# Altium footprint library Connector_USB.PcbLib: 26 footprints (part 1 of 2)
Each footprint in its own frame and in the unit in brackets; x right, y up, seen from the top. Pads: shape width x height; smd on the part's side, far side on the other; paste and mask are expansions set on the pad; w line width, h text height; cw(c..) or ccw(c..) is an arc to the next point about the centre after c.
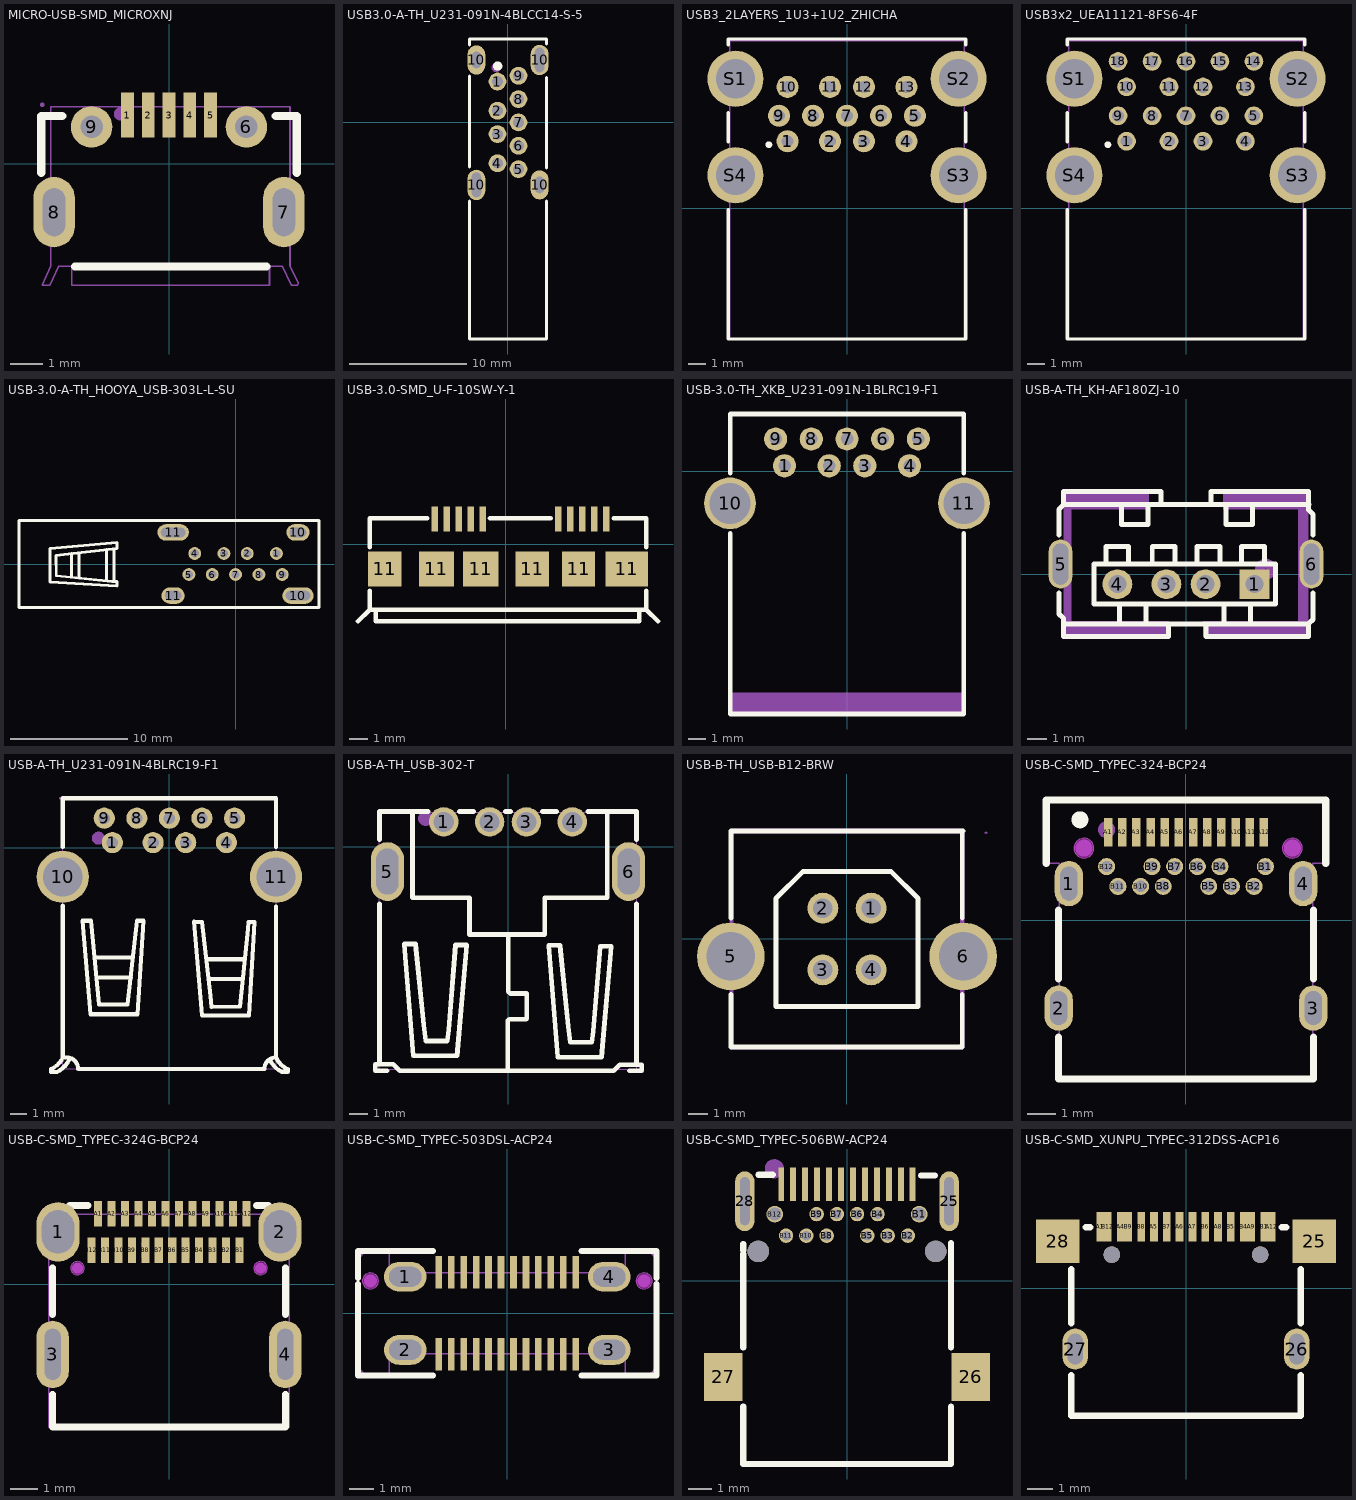
[diagram p0: the footprints below, top view; thin cyan lines are the x and y axes]

## MICRO-USB-SMD_MICROXNJ [mil]
pads (9):
  rect 15.7x55.1 smd mask+2: 1(-51.2,59.9) 2(-25.6,59.9) 3(0,59.9) 4(25.6,59.9) 5(51.2,59.9)
  round 51.2 hole 27.6 mask+2: 6(95.5,45.2) 9(-95.5,45.2)
  oval 51.2x86.6 hole 27.6 slot 59.1 at 90 deg mask+2: 7(141.7,-59.9) 8(-141.7,-59.9)
Top Overlay:
  lines w10: -157.5,-11.3 -157.5,58.7 -131.7,58.7 ; -116.14,-126.97 120.08,-126.97 ; 131.7,58.7 157.5,58.7 157.5,-11.3
Top Paste:
  circle w25.6: c95.5,45.2 r12.8
  circle w25.6: c-95.5,45.2 r12.8
  region: -43.3,87.5 -59.1,87.5 -59.1,40.2 -59.1,32.3 -43.3,32.3 -43.3,41.7
  region: -17.7,87.5 -33.5,87.5 -33.5,40.2 -33.5,32.3 -17.7,32.3 -17.7,41.7
  region: 7.9,87.5 -7.9,87.5 -7.9,40.2 -7.9,32.3 7.9,32.3 7.9,41.7
  region: 33.5,87.5 17.7,87.5 17.7,40.2 17.7,32.3 33.5,32.3 33.5,41.7
  region: 59.1,87.5 43.3,87.5 43.3,40.2 43.3,32.3 59.1,32.3 59.1,41.7
  region: -167.3,-42.2 -167.3,-38.83 -165.56,-32.32 -162.19,-26.48 -157.42,-21.71 -151.58,-18.34 -145.07,-16.6 -138.33,-16.6 -131.82,-18.34 -125.98,-21.71 -121.22,-26.48 -117.84,-32.32 -116.1,-38.83 -116.1,-42.2 -116.1,-77.6 -116.1,-80.97 -117.84,-87.48 -121.22,-93.32 -125.98,-98.09 -131.82,-101.46 -138.33,-103.2 -145.07,-103.2 -151.58,-101.46 -157.42,-98.09 -162.19,-93.32 -165.56,-87.48 -167.3,-80.97 -167.3,-77.6
  region: 116.1,-42.2 116.1,-38.83 117.84,-32.32 121.21,-26.48 125.98,-21.71 131.82,-18.34 138.33,-16.6 145.07,-16.6 151.58,-18.34 157.42,-21.71 162.19,-26.48 165.56,-32.32 167.3,-38.83 167.3,-42.2 167.3,-77.6 167.3,-80.97 165.56,-87.48 162.19,-93.32 157.42,-98.09 151.58,-101.46 145.07,-103.2 138.33,-103.2 131.82,-101.46 125.98,-98.09 121.21,-93.32 117.84,-87.48 116.1,-80.97 116.1,-77.6
Mechanical 6:
  circle w7.9: c-60.2,61.2 r3.9
Mechanical 15:
  region: 46.3,33.1 46.3,72.5 56.1,72.5 56.1,33.1
  region: 20.7,33.1 20.7,72.5 30.5,72.5 30.5,33.1
  region: -4.9,33.1 -4.9,72.5 4.9,72.5 4.9,33.1
  region: -30.5,33.1 -30.5,72.5 -20.7,72.5 -20.7,33.1
  region: -56.1,33.1 -56.1,72.5 -46.3,72.5 -46.3,33.1
  region: 85.6,41.3 85.6,49.2 105.3,49.2 105.3,41.3
  region: -105.3,41.3 -105.3,49.2 -85.6,49.2 -85.6,41.3
  region: 135.8,-42 147.6,-42 147.6,-77.8 135.8,-77.8
  region: -147.6,-42 -135.8,-42 -135.8,-77.8 -147.6,-77.8
  region: -153.9,72.5 -153.9,73.49 -155.31,74.9 -157.29,74.9 -158.7,73.49 -158.7,72.5 -158.7,71.51 -157.29,70.1 -155.31,70.1 -153.9,71.51 -153.9,72.5
  lines w2: -156.3,-149.9 -145.7,-126.2 -145.7,69.8 -145.7,70.2 149.2,70.2 149.2,-125.8 159.4,-147.5 158.7,-149.9 150.8,-149.9 139.4,-126.6 124,-126.6 124,-150.2 -119.3,-149.9 -120.1,-149.9 -120.1,-126.6 -135.8,-126.6 -147.2,-150.2 -156.3,-149.9
3D body "3D_PCB1_2022-04-16.step": height 108.29, standoff -39.39, extent -155.73,-169.82 159.33,50.65

## USB3.0-A-TH_U231-091N-4BLCC14-S-5 [mil]
pads (13):
  round 60 hole 36: 1(-35.43,137.79) 2(-35.43,39.37) 3(-35.43,-39.37) 4(-35.43,-137.79) 5(35.44,-157.48) 6(35.44,-78.74) 7(35.44,0) 8(35.44,78.74) 9(35.44,157.48)
  oval 60x102.36 hole 31.5 slot 82.68 at 90 deg: 10(-106.69,-210.63) 10(106.7,210.63)
  oval 60x98.42 hole 31.5 slot 55.12 at 90 deg: 10(-106.69,210.63) 10(106.7,-210.63)
Top Overlay:
  circle w15.75: c-34.99,190 r7.87
  lines w10: -130,-150 -130,156.04 ; -129.91,-265.54 -129.91,-729.96 129.87,-729.96 130.21,-730.31 130.21,-265.51 129.93,-265.23 ; -129.91,261.77 -129.91,281.22 -129.81,281.33 129.93,281.33 129.93,264.79 ; 129.93,-154.4 129.93,151.65
Mechanical 15:
  circle w15.75: c-39.99,185 r7.87
3D body "USB1.stp": height 545.28, standoff -137.8, extent -128.35,-733.35 128.35,284.37

## USB3_2LAYERS_1U3+1U2_ZHICHA [mm]
pads (17):
  round 1.3 hole 0.7: 1(-3.5,3.93) 2(-1,3.93) 3(1,3.93) 4(3.5,3.93) 5(4,5.43) 6(2,5.43) 7(0,5.43) 8(-2,5.43) 9(-4,5.43) 10(-3.5,7.13) 11(-1,7.13) 12(1,7.13) 13(3.5,7.13)
  round 3.3 hole 2.3: S1(-6.57,7.61) S2(6.57,7.61) S3(6.57,1.93) S4(-6.57,1.93)
Top Overlay:
  circle w0.2: c-4.6,3.73 r0.1
  lines w0.2: -7,-0.1 -7,-7.71 7,-7.71 7,-0.1 ; -7,3.9 -7,5.6 ; -7,9.6 -7,9.95 7,9.95 7,9.6 ; 7,3.9 7,5.6
Mechanical 13:
  lines w0.1: -6.9,-7.71 -6.9,9.85 6.9,9.85 6.9,-7.71 -6.9,-7.71
3D body "8129645.stp": height 16.2, standoff -3.2, extent -7.81,-7.529 7.86,9.931

## USB3x2_UEA11121-8FS6-4F [mm]
pads (22):
  round 1.1 hole 0.7: 1(-3.5,3.93) 2(-1,3.93) 3(1,3.93) 4(3.5,3.93) 5(4,5.43) 6(2,5.43) 7(0,5.43) 8(-2,5.43) 9(-4,5.43) 10(-3.5,7.13) 11(-1,7.13) 12(1,7.13) 13(3.5,7.13) 14(4,8.63) 15(2,8.63) 16(0,8.63) 17(-2,8.63) 18(-4,8.63)
  round 3.3 hole 2.3: S1(-6.57,7.61) S2(6.57,7.61) S3(6.57,1.93) S4(-6.57,1.93)
Top Overlay:
  circle w0.2: c-4.6,3.73 r0.1
  lines w0.2: -7,-0.1 -7,-7.71 7,-7.71 7,-0.1 ; -7,3.9 -7,5.6 ; -7,9.6 -7,9.95 7,9.95 7,9.6 ; 7,3.9 7,5.6
Mechanical 13:
  lines w0.1: -6.9,-7.71 -6.9,9.85 6.9,9.85 6.9,-7.71 -6.9,-7.71
3D body "8129645.stp": height 16.2, standoff -3.2, extent -7.81,-7.529 7.86,9.931

## USB-3.0-A-TH_HOOYA_USB-303L-L-SU [mm]
pads (13):
  round 1.1 hole 0.7: 1(3.5,0.9) 2(1,0.9) 3(-1,0.9) 4(-3.5,0.9) 5(-4,-0.9) 6(-2,-0.9) 7(0,-0.9) 8(2,-0.9) 9(4,-0.9)
  oval 2x1.4 hole 0.8 slot 1.4 at 0 deg: 10(5.35,2.71) 11(-5.35,-2.71)
  oval 2.7x1.4 hole 0.8 slot 2.1 at 0 deg: 10(5.35,-2.71) 11(-5.35,2.71)
Top Overlay:
  lines w0.254: -18.558,3.725 7.15,3.725 7.15,-3.725 -18.55,-3.725 -18.55,3.726 ; -14.042,-1.134 -14.042,0.891 ; -13.413,-1.203 -13.413,0.961 ; -11.047,-1.429 -11.047,1.227 ; -10.435,-1.482 -10.435,1.296 ; -15.901,-1.542 -15.89,1.341 -10.155,1.836 -10.159,1.327 -14.699,0.817 -15.377,0.742 -15.367,-1.008 -10.588,-1.482 -10.158,-1.512 -10.158,-1.892 -15.901,-1.542

## USB-3.0-SMD_U-F-10SW-Y-1 [mm]
pads (16):
  rect 0.35x1.35 smd paste+0 mask+0.05: 1(-3.85,1.35) 2(-3.2,1.35) 3(-2.55,1.35) 4(-1.9,1.35) 5(-1.25,1.35) 6(2.85,1.35) 7(3.5,1.35) 8(4.15,1.35) 9(4.8,1.35) 10(5.45,1.35)
  rect 1.8x1.9 smd paste+0 mask+0.05: 11(-6.55,-1.35) 11(3.95,-1.35)
  rect 1.9x1.9 smd paste+0 mask+0.05: 11(-3.75,-1.35) 11(-1.35,-1.35)
  rect 1.81x1.9 smd paste+0 mask+0.05: 11(1.445,-1.35)
  rect 2.3x1.9 smd paste+0 mask+0.05: 11(6.55,-1.35)
Top Overlay:
  lines w0.254: -8.001,-4.191 -7.366,-3.556 ; -7.366,-2.531 -7.366,-3.556 ; -7.366,-0.169 -7.366,1.397 -4.256,1.397 ; -7.042,-3.556 -7.042,-4.191 7.239,-4.191 7.239,-3.556 ; -0.844,1.397 2.444,1.397 ; 5.856,1.397 7.62,1.397 7.62,-0.169 ; 7.62,-2.531 7.62,-3.556 ; 8.255,-4.191 7.62,-3.556 ; -7.366,-3.556 7.62,-3.556
3D body "USB1.stp": height 2.7, standoff -0.3, extent -6.55,-3.998 7.05,1.232

## USB-3.0-TH_XKB_U231-091N-1BLRC19-F1 [mm]
pads (11):
  round 1.3 hole 0.7: 1(-3.5,0.3) 2(-1,0.3) 3(1,0.3) 4(3.5,0.3) 5(4,1.8) 6(2,1.8) 7(0,1.8) 8(-2,1.8) 9(-4,1.8)
  round 2.9 hole 2.3: 10(-6.55,-1.8) 11(6.55,-1.8)
Top Overlay:
  lines w0.254: -6.55,-3.481 -6.55,-13.6 6.55,-13.6 6.55,-3.481 ; -6.55,-0.119 -6.55,3.2 6.55,3.2 6.55,-0.119
Mechanical 15:
  region: -6.6,-12.4 6.6,-12.4 6.6,-13.6 -6.6,-13.6

## USB-A-TH_KH-AF180ZJ-10 [mil]
pads (6):
  rect 60x60 hole 36: 1(137.79,-20.27)
  round 60 hole 36: 2(39.37,-20.27) 3(-39.37,-20.27) 4(-137.79,-20.27)
  oval 47.24x98.42 hole 31.5 slot 82.68 at 90 deg: 5(-252.01,20.23) 6(252.01,20.23)
Top Overlay:
  lines w10: -255,-37.9 -255,-80 -246.11,-88.89 -246.11,-100 ; -255,78.45 -255,120 -255,130 -245,140 ; -160.79,20.28 -160.79,55.28 -115,55.28 -115,20.28 ; -133.69,-59.72 -133.69,-99.72 -80,-99.72 -80,-59.72 ; -130,140 -130,100 -76.31,100 -76.31,140 ; -67.79,20.28 -67.79,55.28 -22,55.28 -22,20.28 ; 22.21,20.28 22.21,55.28 68,55.28 68,20.28 ; 40,-110 40,-125.78 246.06,-125.78 246.06,-99.95 ; 39.99,-109.95 39.99,-99.95 ; 49.99,165.04 49.99,140.04 -50.01,140.04 -50.01,166.34 -246.11,166.34 -246.11,141.11 -245,140 ; 50,166.34 246.06,166.34 246.06,140 246.06,128.94 255,120 255,78.45 ; 76.31,-59.72 76.31,-99.72 130,-99.72 130,-59.72 ; 80,140 80,100 133.69,100 133.69,140 ; 111.71,20.28 111.71,55.28 157.5,55.28 157.5,20.28 ; 247.13,140 -245,140 ; 255,-37.9 255,-85 255,-91.02 246.06,-99.95 ; -246.11,-100 -246.06,-99.95 -35.01,-99.95 ; -246.11,-100 -246.11,-124.95 -35.01,-124.95 -35.01,-99.95 ; -35.01,-99.95 39.99,-99.95 ; 39.99,-99.95 246.06,-99.95 ; -185,-59.72 -185,20.28 180,20.28 180,-59.72 -185,-59.72
Mechanical 15:
  circle w19.68: c160,9.85 r11.18
  region: -245,130 -245,-95 -230,-95 -230,130
  region: 245,-95 245,130 225,130 225,-95
  region: 35,-125 35,-95 245,-95 245,-125
  region: -245,-125 -245,-95 -35,-95 -35,-125
  region: 75,130 75,165 245,165 245,130
  region: -75,130 -75,165 -245,165 -245,130
3D body "USB1.stp": height 393.82, standoff -118.13, extent -257.88,-126.38 257.88,165.75

## USB-A-TH_U231-091N-4BLRC19-F1 [mil]
pads (11):
  round 51.2 hole 27.6 mask+2: 1(-137.8,11.8) 2(-39.4,11.8) 3(39.4,11.8) 4(137.8,11.8) 5(157.5,70.9) 6(78.7,70.9) 7(0,70.9) 8(-78.7,70.9) 9(-157.5,70.9)
  round 126 hole 94.5 mask+2: 10(-257.9,-70.9) 11(257.9,-70.9)
Top Overlay:
  lines w10: -271.7,-542.8 -286,-542.8 -286,-535.9 ccw(c-308.43,-485.33) -257.87,-507.77 ; -271.65,-542.82 ccw(c-299.19,-486.69) -242.86,-513.81 ; -257.9,-507.8 -257.9,-140.7 ; -257.9,-507.5 -248.7,-507.5 cw(c-248.69,-535.6) -220.58,-535.6 229.7,-535.6 cw(c257.8,-535.6) 257.8,-507.49 257.8,-143 ; -257.9,1.2 -257.9,119.1 257.9,119.1 257.9,1.2 ; -257.87,-79.69 cw(c-251.97,-79.69) -251.97,-73.79 ; -179.1,-266.3 -90.1,-266.3 ; -173.6,-314 -93.6,-314 ; 91.8,-270.2 180.8,-270.2 ; 97.4,-317.9 177.3,-317.9 ; 242.86,-513.29 ccw(c299.19,-486.16) 271.65,-542.29 ; 257.87,-507.25 ccw(c304.11,-489.12) 285.98,-535.36 ; 271.7,-542.3 286,-542.3 286,-535.4 ; -210,-177.2 -190,-177.2 -170.1,-379.3 -101.2,-379.3 -78,-177.2 -63,-177.2 -77,-403.2 -191,-403.2 -210,-177.2 ; 59.1,-179.7 79.1,-179.9 99.2,-358.6 102.2,-385.3 171.1,-384.9 189.7,-196.8 190.9,-179.9 205.9,-179.9 192.1,-406 78.6,-405.5 59.1,-179.7
Mechanical 6:
  circle w15.7: c-171.6,22.5 r7.9
Mechanical 15:
  region: 252,-37.4 263.8,-37.4 263.8,-104.3 252,-104.3
  region: -263.8,-37.4 -252,-37.4 -252,-104.3 -263.8,-104.3
  region: -145.7,7.9 -145.7,15.8 -129.9,15.8 -129.9,7.9
  region: -47.2,7.9 -47.2,15.8 -31.5,15.8 -31.5,7.9
  region: 31.5,7.9 31.5,15.8 47.2,15.8 47.2,7.9
  region: 129.9,7.9 129.9,15.8 145.7,15.8 145.7,7.9
  region: 149.6,66.9 149.6,74.8 165.4,74.8 165.4,66.9
  region: 70.9,66.9 70.9,74.8 86.6,74.8 86.6,66.9
  region: -7.9,66.9 -7.9,74.8 7.9,74.8 7.9,66.9
  region: -86.6,66.9 -86.6,74.8 -70.9,74.8 -70.9,66.9
  region: -165.3,66.9 -165.3,74.8 -149.6,74.8 -149.6,66.9
  region: -261.4,118.8 -261.4,119.79 -262.81,121.2 -264.79,121.2 -266.2,119.79 -266.2,118.8 -266.2,117.81 -264.79,116.4 -262.81,116.4 -261.4,117.81 -261.4,118.8
  lines w2: -257.9,-534.8 257.9,-534.8 257.9,118.8 -257.9,118.8 -257.9,-534.8
3D body "3D_PCB1_2022-04-16.stp": height 282.55, standoff -118.11, extent -311.16,-533.91 311.16,127.51

## USB-A-TH_USB-302-T [mil]
pads (6):
  round 63 hole 43.3 mask+2: 1(-137.8,53.3) 2(-39.4,53.3) 3(39.4,53.3) 4(137.8,53.3)
  oval 70.9x126 hole 47.2 slot 98.4 at 90 deg mask+2: 5(-258.7,-53.3) 6(258.7,-53.3)
Top Overlay:
  lines w10: -284.5,-480.7 -259.5,-480.7 ; -284.4,-480.7 -284.5,-466.7 -246.5,-466.7 -232.5,-480.7 226.5,-480.7 239.5,-467.7 286.5,-467.7 286.5,-480.7 260.5,-480.7 ; -275.6,-459.8 -275.6,-122.1 ; -275.6,15.4 -275.6,75.6 -171.7,75.6 ; -204.7,75.6 -204.7,-109.4 -82.7,-109.4 -82.7,-188.2 78.7,-188.2 78.7,-109.4 212.6,-109.4 212.6,75.6 ; -103.9,75.6 -73.3,75.6 ; -5.4,75.6 5.4,75.6 ; -0.5,-480.7 -0.5,-372.7 2.5,-369.7 39.5,-369.7 40.5,-368.7 40.5,-314.7 4.5,-314.7 0.5,-310.7 0.5,-205.7 ; 0.5,-212.9 0.5,-188.2 ; 73.3,75.6 103.9,75.6 ; 171.7,75.6 275.6,75.6 275.6,15.4 ; 275.6,-467.7 275.6,-122.1 ; -222.5,-208.7 -203.5,-448.7 -109.5,-448.7 -88.5,-210.7 -112.5,-210.7 -127.2,-393.3 -130.1,-416.7 -176.5,-416.7 -180.5,-382.7 -198.5,-208.7 -222.5,-208.7 ; 87.5,-211.7 106.5,-451.7 200.5,-451.7 221.5,-213.7 197.5,-213.7 182.8,-396.3 179.9,-419.7 133.5,-419.7 129.5,-385.7 111.5,-211.7 87.5,-211.7
Mechanical 6:
  circle w15.7: c-177,60.5 r7.9
Mechanical 15:
  region: -274.7,74 -274.7,74.99 -276.11,76.4 -278.09,76.4 -279.5,74.99 -279.5,74 -279.5,73.01 -278.09,71.6 -276.11,71.6 -274.7,73.01 -274.7,74
  region: -151.6,49.4 -151.6,57.3 -124,57.3 -124,49.4
  region: -53.1,49.4 -53.1,57.3 -25.6,57.3 -25.6,49.4
  region: 25.6,49.4 25.6,57.3 53.2,57.3 53.2,49.4
  region: 124,49.4 124,57.3 151.6,57.3 151.6,49.4
  region: -250.8,-27.8 -250.8,-78.9 -266.5,-78.9 -266.5,-27.8
  region: 250.8,-78.9 250.8,-27.8 266.5,-27.8 266.5,-78.9
  lines w2: -275.6,-477.1 275.6,-477.1 275.6,74 -275.6,74 -275.6,-477.1
3D body "3D_PCB1_2022-04-15.stp": height 267.91, standoff -169.3, extent -288.56,-489.5 289.56,73.69

## USB-B-TH_USB-B12-BRW [mm]
pads (6):
  round 1.6 hole 1: 1(1.25,1.6) 2(-1.25,1.6) 3(-1.25,-1.6) 4(1.25,-1.6)
  round 3.5 hole 2.5: 5(-6.02,-0.9) 6(6.02,-0.9)
Top Overlay:
  lines w0.254: -6,-2.881 -6,-5.588 5.969,-5.588 5.969,-2.881 ; -6,1.081 -6,5.588 6,5.588 ; 5.969,1.08 5.969,5.588 ; -3.683,-3.493 3.683,-3.493 3.683,2.095 2.286,3.492 -1.905,3.492 -2.286,3.492 -3.683,2.095 -3.683,-3.493
Mechanical 6:
  region: 5.87,5.5 5.87,-5.45 5.82,-5.5 -5.83,-5.5 -5.88,-5.45 -5.88,5.45 -5.83,5.5 -5.83,5.7 -5.98,5.7 -6.08,5.6 -6.08,-5.6 -5.98,-5.7 5.97,-5.7 6.07,-5.6 6.07,5.6 5.97,5.7 -5.78,5.7 -5.78,5.5
  region: 2.1,3.55 -2.35,3.55 -3.8,2.1 -3.55,2.1 -2.25,3.4 2.25,3.4 3.6,2.05 3.8,2.05 2.3,3.55 2.25,3.55
  region: -3.8,2.1 -3.8,-3.5 -3.7,-3.6 -3.6,-3.6 -3.6,2.05 -3.55,2.1
  region: 3.775,2.1 3.775,-3.5 3.675,-3.6 3.575,-3.6 3.575,2.05 3.525,2.1
  region: 3.55,-3.4 -3.55,-3.4 -3.55,-3.6 3.5,-3.6 3.55,-3.6
Mechanical 15:
  region: 7.26,5.5 7.26,5.525 7.225,5.56 7.176,5.56 7.14,5.525 7.14,5.5 7.14,5.475 7.176,5.44 7.225,5.44 7.26,5.475 7.26,5.5
  region: 0.95,1.725 1.55,1.725 1.55,1.475 0.95,1.475
  region: 0.95,-1.475 1.55,-1.475 1.55,-1.725 0.95,-1.725
  region: -1.55,-1.475 -0.95,-1.475 -0.95,-1.725 -1.55,-1.725
  region: -1.55,1.725 -0.95,1.725 -0.95,1.475 -1.55,1.475
  region: 5.87,-1.65 5.87,-0.15 6.17,-0.15 6.17,-1.65
  region: -6.17,-1.65 -6.17,-0.15 -5.87,-0.15 -5.87,-1.65
  region: 7.2,-0.15 7.2,-1.65 5.87,-1.65 5.87,-0.15
  region: -7.201,-1.65 -7.201,-0.15 -5.87,-0.15 -5.87,-1.65
  lines w0.051: -6,-5.5 -6,5.5 6,5.5 6,-5.5 -6,-5.5
3D body "1.STEP": height 16.11, standoff -5.3, extent -7.4,-5.7 7.397,5.3

## USB-C-SMD_TYPEC-324-BCP24 [mm]
pads (28):
  oval 1x1.6 hole 0.6 slot 1.2 at 90 deg copper offset 0,0 paste+0 mask+0.05: 1(-4.13,1.29) 3(4.49,-3.1)
  oval 1x1.6 hole 0.6 slot 1.2 at 90 deg paste+0 mask+0.05: 2(-4.49,-3.1) 4(4.13,1.29)
  rect 0.3x1.01 smd paste-100 mask+0.05: A1(-2.75,3.1) A2(-2.25,3.1) A3(-1.75,3.1) A4(-1.25,3.1) A5(-0.75,3.1) A6(-0.25,3.1) A7(0.25,3.1) A8(0.75,3.1) A9(1.25,3.1) A10(1.75,3.1) A11(2.25,3.1) A12(2.75,3.1)
  round 0.6 hole 0.4 paste+0 mask+0.05: B1(2.8,1.89) B2(2.4,1.19) B3(1.6,1.19) B4(1.2,1.89) B5(0.8,1.19) B6(0.4,1.89) B7(-0.4,1.89) B8(-0.8,1.19) B9(-1.2,1.89) B10(-1.6,1.19) B11(-2.4,1.19) B12(-2.8,1.89)
Top Overlay:
  circle w0.3: c-3.74,3.54 r0.15
  lines w0.254: -4.93,2 -4.93,4.24 4.93,4.24 4.93,2 ; -4.5,-4.131 -4.5,-5.6 4.5,-5.6 4.5,-4.131 ; -4.5,-2.069 -4.5,0.36 ; 4.5,-2.069 4.5,0.36
Top Paste:
  drawing of 28 lines, arcs and shapes, not listed
Keep-Out Layer:
  board cut-out: -3.25,2.54 -3.25,2.61 -3.303,2.738 -3.402,2.837 -3.531,2.89 -3.67,2.89 -3.798,2.837 -3.897,2.738 -3.95,2.61 -3.95,2.54 -3.95,2.47 -3.897,2.342 -3.798,2.243 -3.67,2.19 -3.53,2.19 -3.402,2.243 -3.303,2.342 -3.25,2.47 -3.25,2.54
  board cut-out: 4.1,2.54 4.1,2.61 4.047,2.738 3.948,2.837 3.819,2.89 3.68,2.89 3.552,2.837 3.453,2.738 3.4,2.61 3.4,2.54 3.4,2.47 3.453,2.342 3.552,2.243 3.68,2.19 3.82,2.19 3.948,2.243 4.047,2.342 4.1,2.47 4.1,2.54
Mechanical 1:
  circle w0.005: c-3.6,2.54 r0.35
  circle w0.005: c3.75,2.54 r0.35
Mechanical 6:
  circle w0.3: c-3.6,2.54 r0.15
  circle w0.3: c3.75,2.54 r0.15
  circle w0.3: c-2.8,3.19 r0.15
Mechanical 15:
  drawing of 37 lines, arcs and shapes, not listed
Multi-Layer keep-out:
  region: -3.25,2.54 -3.25,2.61 -3.303,2.738 -3.402,2.837 -3.531,2.89 -3.67,2.89 -3.798,2.837 -3.897,2.738 -3.95,2.61 -3.95,2.54 -3.95,2.47 -3.897,2.342 -3.798,2.243 -3.67,2.19 -3.53,2.19 -3.402,2.243 -3.303,2.342 -3.25,2.47 -3.25,2.54
  region: 4.1,2.54 4.1,2.61 4.047,2.738 3.948,2.837 3.819,2.89 3.68,2.89 3.552,2.837 3.453,2.738 3.4,2.61 3.4,2.54 3.4,2.47 3.453,2.342 3.552,2.243 3.68,2.19 3.82,2.19 3.948,2.243 4.047,2.342 4.1,2.47 4.1,2.54
3D body "USB1.stp": height 3.16, standoff -1.25, extent -4.771,-5.565 4.771,4.185

## USB-C-SMD_TYPEC-324G-BCP24 [mm]
pads (28):
  oval 1.6x2.2 hole 1.2 slot 1.6 at 90 deg paste+0 mask+0.05: 1(-4.12,1.937) 2(4.12,1.937)
  oval 1.2x2.5 hole 0.6 slot 1.9 at 90 deg paste+0 mask+0.05: 3(-4.32,-2.613) 4(4.32,-2.613)
  rect 0.3x0.95 smd paste-100 mask+0.05: A1(-2.63,2.613) A2(-2.13,2.613) A3(-1.63,2.613) A4(-1.13,2.613) A5(-0.63,2.613) A6(-0.13,2.613) A7(0.37,2.613) A8(0.87,2.613) A9(1.37,2.613) A10(1.87,2.613) A11(2.37,2.613) A12(2.87,2.613) B1(2.62,1.262) B2(2.12,1.262) B3(1.62,1.262) B4(1.12,1.262) B5(0.62,1.262) B6(0.12,1.262) B7(-0.38,1.262) B8(-0.88,1.262) B9(-1.38,1.262) B10(-1.88,1.262) B11(-2.38,1.262) B12(-2.88,1.262)
Top Overlay:
  lines w0.254: -4.32,-4.094 -4.32,-5.313 4.32,-5.313 4.32,-4.094 ; -4.32,-1.131 -4.32,0.606 ; -3.698,2.921 -3.011,2.921 ; 3.251,2.921 3.698,2.921 ; 4.32,-1.131 4.32,0.606
Top Paste:
  drawing of 28 lines, arcs and shapes, not listed
Keep-Out Layer:
  board cut-out: 3.65,0.587 3.65,0.637 3.611,0.728 3.541,0.797 3.449,0.835 3.351,0.835 3.259,0.797 3.189,0.728 3.151,0.637 3.15,0.587 3.151,0.538 3.189,0.447 3.259,0.377 3.351,0.34 3.449,0.34 3.541,0.377 3.611,0.447 3.65,0.538 3.65,0.587
  board cut-out: -3.15,0.587 -3.15,0.637 -3.189,0.728 -3.259,0.797 -3.35,0.835 -3.449,0.835 -3.541,0.797 -3.611,0.728 -3.649,0.637 -3.65,0.587 -3.649,0.538 -3.611,0.447 -3.541,0.377 -3.449,0.34 -3.35,0.34 -3.259,0.377 -3.189,0.447 -3.15,0.538 -3.15,0.587
Mechanical 1:
  circle w0.005: c3.4,0.587 r0.25
  circle w0.005: c-3.4,0.587 r0.25
Mechanical 6:
  circle w0.2: c3.4,0.587 r0.1
  circle w0.2: c-3.4,0.587 r0.1
Mechanical 15:
  drawing of 33 lines, arcs and shapes, not listed
3D body "COMPOUND.stp": height 3.16, standoff -0.6, extent -4.47,-5.3 4.47,2.8

## USB-C-SMD_TYPEC-503DSL-ACP24 [mm]
pads (28):
  oval 1.7x1.2 hole 0.8 slot 1.3 at 0 deg paste+0 mask+0.05: 1(-4.1,1.47) 2(-4.1,-1.47) 3(4.1,-1.47) 4(4.1,1.47)
  rect 0.27x1.3 smd paste-100 mask+0.05: A1(2.75,-1.65) A2(2.25,-1.65) A3(1.75,-1.65) A4(1.25,-1.65) A5(0.75,-1.65) A6(0.25,-1.65) A7(-0.25,-1.65) A8(-0.75,-1.65) A9(-1.25,-1.65) A10(-1.75,-1.65) A11(-2.25,-1.65) A12(-2.75,-1.65) B1(-2.75,1.65) B2(-2.25,1.65) B3(-1.75,1.65) B4(-1.25,1.65) B5(-0.75,1.65) B6(-0.25,1.65) B7(0.25,1.65) B8(0.75,1.65) B9(1.25,1.65) B10(1.75,1.65) B11(2.25,1.65) B12(2.75,1.65)
Top Overlay:
  lines w0.254: -6,1.172 -6,-2.5 -2.998,-2.5 ; -6,1.428 -6,2.5 -2.998,2.5 ; 2.998,-2.5 6,-2.5 6,1.172 ; 2.998,2.5 6,2.5 6,1.428
Top Paste:
  drawing of 28 lines, arcs and shapes, not listed
Keep-Out Layer:
  board cut-out: 5.825,1.3 5.824,1.364 5.773,1.481 5.682,1.57 5.564,1.619 5.436,1.619 5.318,1.57 5.227,1.481 5.177,1.364 5.175,1.3 5.177,1.236 5.227,1.119 5.318,1.03 5.436,0.981 5.564,0.981 5.682,1.03 5.773,1.119 5.824,1.236 5.825,1.3
  board cut-out: -5.175,1.3 -5.176,1.364 -5.227,1.481 -5.318,1.57 -5.436,1.619 -5.564,1.619 -5.682,1.57 -5.773,1.481 -5.823,1.364 -5.825,1.3 -5.823,1.236 -5.773,1.119 -5.682,1.03 -5.564,0.981 -5.436,0.981 -5.318,1.03 -5.227,1.119 -5.176,1.236 -5.175,1.3
Mechanical 1:
  circle w0.005: c5.5,1.3 r0.325
  circle w0.005: c-5.5,1.3 r0.325
Mechanical 6:
  circle w0.26: c-5.5,1.3 r0.13
  circle w0.26: c5.5,1.3 r0.13
Mechanical 15:
  drawing of 58 lines, arcs and shapes, not listed
3D body "USB.step": height 10, standoff -1.8, extent -6,-2.5 6,2.5

## USB-C-SMD_TYPEC-506BW-ACP24 [mm]
pads (30):
  oval 0.8x2.5 hole 0.4 slot 2 at 90 deg: 25(4.275,3.323) 28(-4.275,3.323)
  rect 1.6x2 smd: 26(5.175,-4.028) 27(-5.175,-4.028)
  rect 0.25x1.4 smd: A1(-2.75,4.028) A2(-2.25,4.028) A3(-1.75,4.028) A4(-1.25,4.028) A5(-0.75,4.028) A6(-0.25,4.028) A7(0.25,4.028) A8(0.75,4.028) A9(1.25,4.028) A10(1.75,4.028) A11(2.25,4.028) A12(2.75,4.028)
  round 0.7 hole 0.55: B1(3.02,2.783) B12(-3.02,2.783)
  round 0.6 hole 0.4: B2(2.55,1.882) B3(1.7,1.882) B4(1.28,2.783) B5(0.85,1.882) B6(0.42,2.783) B7(-0.42,2.783) B8(-0.85,1.882) B9(-1.27,2.783) B10(-1.7,1.882) B11(-2.55,1.882)
  round 0.9 hole 0.9 unplated: ""(-3.71,1.223) ""(3.71,1.222)
Top Overlay:
  lines w0.254: -4.34,-5.256 -4.34,-7.67 4.35,-7.67 4.35,-5.257 ; -4.34,-2.799 -4.34,1.104 ; -4.34,1.26 -4.34,1.54 ; -3.699,4.43 -3.106,4.43 ; 3.106,4.4 3.687,4.4 ; 4.35,-2.798 4.35,1.194 ; 4.35,1.25 4.35,1.57
Top Paste:
  circle w0.35: c-3.02,2.783 r0.175
  circle w0.35: c3.02,2.783 r0.175
  circle w0.3: c-2.55,1.882 r0.15
  circle w0.3: c2.55,1.882 r0.15
  circle w0.3: c-1.7,1.882 r0.15
  circle w0.3: c1.7,1.882 r0.15
  circle w0.3: c-0.85,1.882 r0.15
  circle w0.3: c0.85,1.882 r0.15
  circle w0.3: c1.28,2.783 r0.15
  circle w0.3: c-1.27,2.783 r0.15
  circle w0.3: c0.42,2.783 r0.15
  circle w0.3: c-0.42,2.783 r0.15
  region: -2.625,3.328 -2.875,3.328 -2.875,4.728 -2.625,4.728
  region: -2.125,3.328 -2.375,3.328 -2.375,4.728 -2.125,4.728
  region: -1.625,3.328 -1.875,3.328 -1.875,4.728 -1.625,4.728
  region: -1.125,3.328 -1.375,3.328 -1.375,4.728 -1.125,4.728
  region: -0.625,3.328 -0.875,3.328 -0.875,4.728 -0.625,4.728
  region: -0.125,3.328 -0.375,3.328 -0.375,4.728 -0.125,4.728
  region: 0.375,3.328 0.125,3.328 0.125,4.728 0.375,4.728
  region: 0.875,3.328 0.625,3.328 0.625,4.728 0.875,4.728
  region: 1.375,3.328 1.125,3.328 1.125,4.728 1.375,4.728
  region: 1.875,3.328 1.625,3.328 1.625,4.728 1.875,4.728
  region: 2.375,3.328 2.125,3.328 2.125,4.728 2.375,4.728
  region: 2.875,3.328 2.625,3.328 2.625,4.728 2.875,4.728
  region: -4.375,-5.028 -5.975,-5.028 -5.975,-3.028 -4.375,-3.028
  region: 5.975,-5.028 4.375,-5.028 4.375,-3.028 5.975,-3.028
  region: 4.675,2.473 4.674,2.393 4.613,2.247 4.501,2.136 4.354,2.076 4.196,2.076 4.05,2.136 3.937,2.247 3.876,2.393 3.875,2.473 3.875,4.173 3.876,4.252 3.937,4.398 4.05,4.509 4.196,4.569 4.354,4.569 4.501,4.509 4.613,4.398 4.674,4.252 4.675,4.173
  region: -3.875,2.474 -3.876,2.394 -3.937,2.248 -4.049,2.137 -4.196,2.077 -4.354,2.077 -4.5,2.137 -4.613,2.248 -4.674,2.394 -4.675,2.474 -4.675,4.174 -4.674,4.253 -4.613,4.399 -4.5,4.51 -4.354,4.57 -4.196,4.57 -4.049,4.51 -3.937,4.399 -3.876,4.253 -3.875,4.174
Mechanical 15:
  circle w0.4: c-3.04,4.68 r0.2
  circle w0.4: c-3.71,1.223 r0.2
  circle w0.4: c3.71,1.222 r0.2
3D body "USB1.stp": height 3.16, standoff -1.6, extent -5.779,-7.636 5.778,4.614

## USB-C-SMD_XUNPU_TYPEC-312DSS-ACP16 [mm]
pads (22):
  rect 1.7x1.7 smd: 25(5,1.817) 28(-5,1.817)
  oval 1x1.6 hole 0.6 slot 1.2 at 90 deg: 26(4.32,-2.382) 27(-4.32,-2.382)
  rect 0.3x1.15 smd: A1(-3.35,2.383) A4(-2.55,2.383) A5(-1.25,2.383) A6(-0.25,2.383) A7(0.25,2.383) A8(1.25,2.383) A9(2.55,2.383) A12(3.35,2.383) B1(3.05,2.383) B4(2.25,2.383) B5(1.75,2.383) B6(0.75,2.383) B7(-0.75,2.383) B8(-1.75,2.383) B9(-2.25,2.383) B12(-3.05,2.383)
  round 0.65 hole 0.65 unplated: ""(-2.89,1.302) ""(2.89,1.302)
Top Overlay:
  lines w0.254: -4.47,-3.398 -4.47,-4.983 4.47,-4.983 4.47,-3.398 ; -4.47,-1.367 -4.47,0.736 ; -3.919,2.375 -3.731,2.375 ; 3.731,2.375 3.919,2.375 ; 4.47,-1.367 4.47,0.736
3D body "USB1.stp": height 3.26, standoff -0.9, extent -5.57,-5 5.57,2.65